# Altium schematic symbol library amc1200-schematic.SchLib: 1 symbol
Pins are listed as number, name and electrical type; pins without a type are passive.

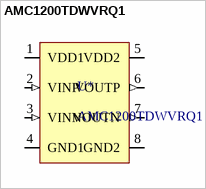
[diagram p0: symbol AMC1200TDWVRQ1]

## AMC1200TDWVRQ1
designator U*
IC OPAMP ISOLATION 100KHZ 8SOIC; mft 1: Texas Instruments; mft 1 PN: AMC1200TDWVRQ1
pins: 1 VDD1 (power), 2 VINP (in), 3 VINN (in), 4 GND1 (power), 5 VDD2 (power), 6 VOUTP (out), 7 VOUTN (out), 8 GND2 (power)